# Altium footprint library N20.PcbLib: 1 footprints
Each footprint in its own frame and in the unit in brackets; x right, y up, seen from the top. Pads: shape width x height; smd on the part's side, far side on the other; paste and mask are expansions set on the pad; w line width, h text height; cw(c..) or ccw(c..) is an arc to the next point about the centre after c.
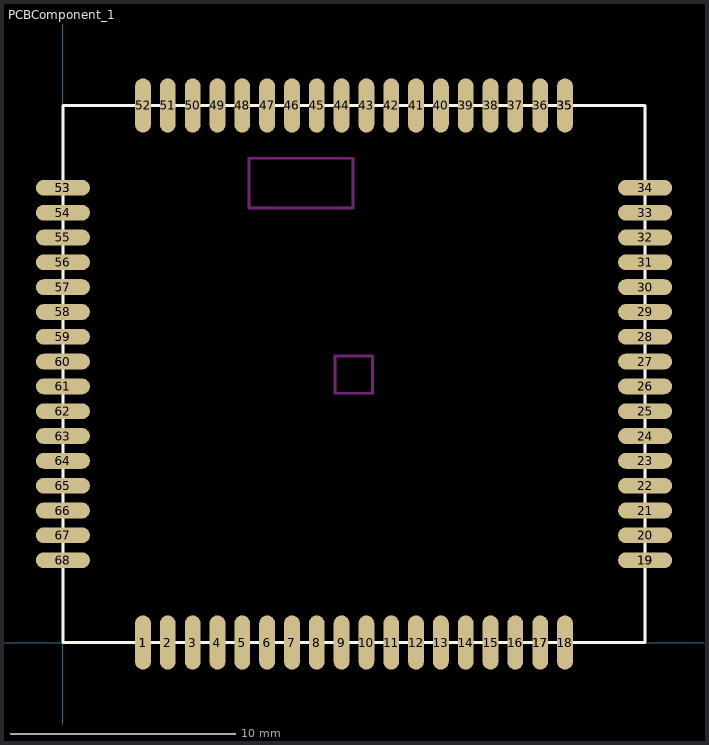
[diagram p0: the footprint, top view; thin cyan lines are the x and y axes]

## PCBComponent_1 [mm]
pads (73):
  oval 0.7x2.4 smd: 1(3.55,0) 1(3.55,0) 2(4.65,0) 3(5.75,0) 4(6.85,0) 5(7.95,0) 6(9.05,0) 7(10.15,0) 8(11.25,0) 9(12.35,0) 10(13.45,0) 11(14.55,0) 12(15.65,0) 13(16.75,0) 14(17.85,0) 15(18.95,0) 16(20.05,0) 17(21.15,0) 17(21.15,0) 18(22.25,0) 35(22.25,23.8) 35(22.25,23.8) 36(21.15,23.8) 37(20.05,23.8) 38(18.95,23.8) 39(17.85,23.8) 40(16.75,23.8) 41(15.65,23.8) 42(14.55,23.8) 43(13.45,23.8) 44(12.35,23.8) 45(11.25,23.8) 46(10.15,23.8) 47(9.05,23.8) 48(7.95,23.8) 49(6.85,23.8) 50(5.75,23.8) 51(4.65,23.8) 52(3.55,23.8)
  oval 2.4x0.7 smd: 19(25.8,3.65) 19(25.8,3.65) 20(25.8,4.75) 21(25.8,5.85) 22(25.8,6.95) 23(25.8,8.05) 24(25.8,9.15) 25(25.8,10.25) 26(25.8,11.35) 27(25.8,12.45) 28(25.8,13.55) 29(25.8,14.65) 30(25.8,15.75) 31(25.8,16.85) 32(25.8,17.95) 33(25.8,19.05) 34(25.8,20.15) 53(0,20.15) 53(0,20.15) 54(0,19.05) 55(0,17.95) 56(0,16.85) 57(0,15.75) 58(0,14.65) 59(0,13.55) 60(0,12.45) 61(0,11.35) 62(0,10.25) 63(0,9.15) 64(0,8.05) 65(0,6.95) 66(0,5.85) 67(0,4.75) 68(0,3.65)
Top Overlay:
  lines w0.127: 0,0 25.8,0 25.8,23.8 0,23.8 0,0
Keep-Out Layer:
  lines w0.127: 8.255,19.26 8.255,21.46 12.85,21.46 12.85,19.26 8.255,19.26 ; 12.065,11.049 12.065,12.7 13.716,12.7 13.716,11.049 12.065,11.049